# Altium footprint library WiCAN_lib.PcbLib: 21 footprints (part 1 of 2)
Each footprint in its own frame and in the unit in brackets; x right, y up, seen from the top. Pads: shape width x height; smd on the part's side, far side on the other; paste and mask are expansions set on the pad; w line width, h text height; cw(c..) or ccw(c..) is an arc to the next point about the centre after c.
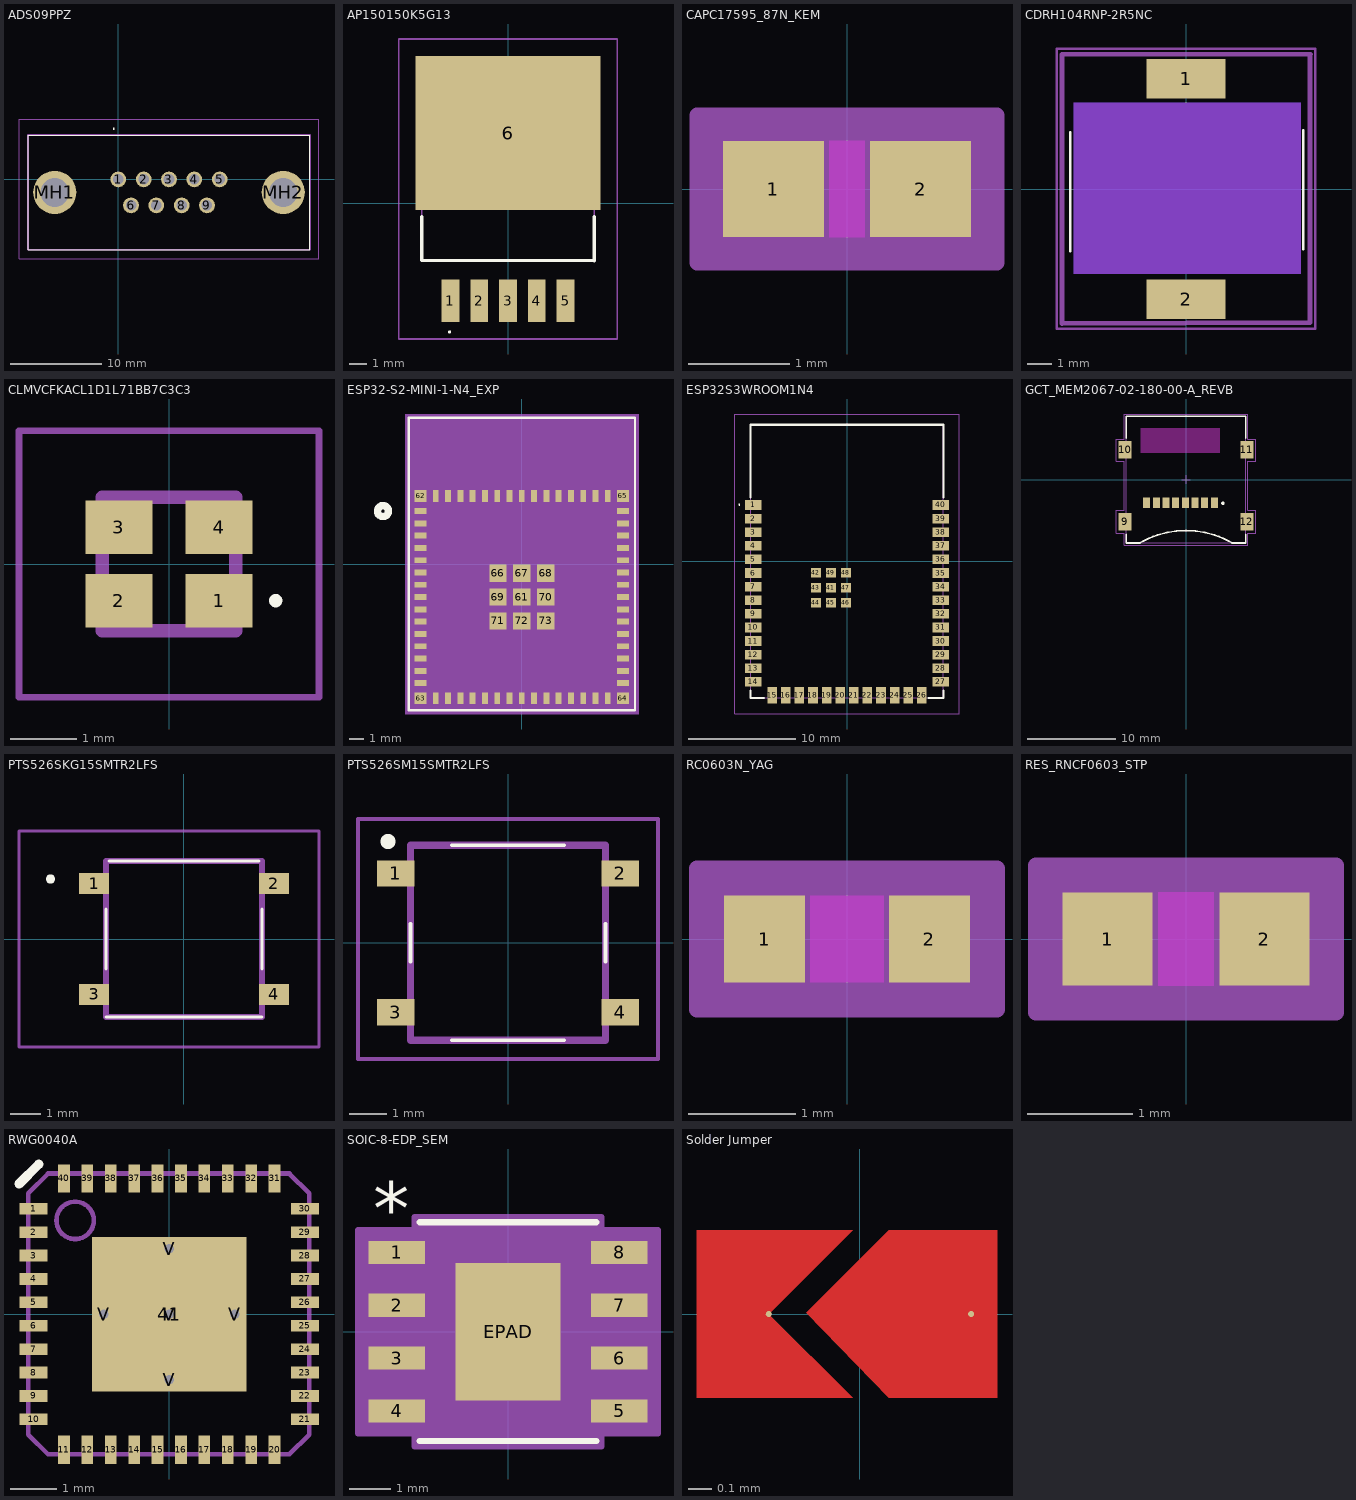
[diagram p0: the footprints below, top view; thin cyan lines are the x and y axes]

## ADS09PPZ [mm]
pads (11):
  round 1.725 hole 1.15: 1(0,0) 2(2.77,0) 3(5.54,0) 4(8.31,0) 5(11.08,0) 6(1.385,-2.84) 7(4.155,-2.84) 8(6.925,-2.84) 9(9.695,-2.84)
  round 4.725 hole 3.15: MH1(-6.955,-1.42) MH2(18.035,-1.42)
Top Overlay:
  lines w0.1: -9.865,-7.695 20.945,-7.695 20.945,4.855 -9.865,4.855 -9.865,-7.695 ; -0.5,5.5 ccw(c-0.5,5.55) -0.5,5.6 ccw(c-0.5,5.55) -0.5,5.5
Mechanical 13:
  lines w0.2: -9.865,-7.695 20.945,-7.695 20.945,4.855 -9.865,4.855 -9.865,-7.695
Mechanical 15:
  lines w0.1: -10.865,-8.695 21.945,-8.695 21.945,6.6 -10.865,6.6 -10.865,-8.695
3D body "connector_a-ds_09_pp_z.stp": height 12.6, standoff -4.6, extent -9.865,-7.695 20.945,4.855

## AP150150K5G13 [mm]
pads (6):
  rect 1.05x2.5 smd: 1(-3.4,-5.765) 2(-1.7,-5.765) 3(0,-5.765) 4(1.7,-5.765) 5(3.4,-5.765)
  rect 10.9x9.1 smd: 6(0,4.135)
Top Overlay:
  lines w0.1: -3.5,-7.6 ccw(c-3.45,-7.6) -3.4,-7.6 ccw(c-3.45,-7.6) -3.5,-7.6
  lines w0.2: -5.08,-0.8 -5.08,-3.385 5.08,-3.4 5.08,-0.8
Mechanical 13:
  lines w0.1: -5.08,-3.385 -5.08,5.765 5.08,5.765 5.08,-3.385 -5.08,-3.385
Mechanical 15:
  lines w0.1: -6.45,-8.015 -6.45,9.685 6.45,9.685 6.45,-8.015 -6.45,-8.015
3D body: height 4.85, standoff 0, extent -5.512,-3.327 5.486,8.712

## CAPC17595_87N_KEM [mm]
pads (2):
  rect 1x0.95 smd paste+0 mask+0: 1(-0.725,0) 2(0.725,0)
Top Layer keep-out:
  region: -0.174,-0.424 -0.174,0.424 0.174,0.424 0.174,-0.424
Keep-Out Layer:
  region: -0.174,-0.475 -0.174,0.475 0.174,0.475 0.174,-0.475
Mechanical 13:
  lines w0.025: -0.875,-0.475 -0.875,0.475 ; -0.875,-0.475 0.875,-0.475 ; -0.875,-0.475 -0.375,-0.475 -0.375,0.475 -0.875,0.475 ; -0.875,-0.475 -0.875,0.475 ; -0.875,0.475 0.875,0.475 ; 0.875,-0.475 0.875,0.475 ; 0.875,-0.475 0.875,0.475 ; 0.875,-0.475 0.375,-0.475 0.375,0.475 0.875,0.475
Mechanical 15:
  region: 1.479,-0.729 -1.479,-0.729 -1.479,0.729 1.479,0.729
  lines w0.152: -1.479,-0.729 1.479,-0.729 1.479,0.729 -1.479,0.729 -1.479,-0.729
3D body "CAPC17595_87N_KEM.step": height 0.87, standoff 0, extent -0.875,-0.475 0.875,0.475

## CDRH104RNP-2R5NC [mm]
pads (2):
  rect 3.2x1.6 smd: 1(0,4.45) 2(0,-4.45)
Top Layer keep-out:
  rectangle: -4.547,-3.429 4.648,3.48
Bottom Layer keep-out:
  rectangle: -4.547,-3.429 4.648,3.48
Top Overlay:
  lines w0.1: -4.674,-2.514 -4.674,2.286 ; 4.724,-2.438 4.724,2.362
Mechanical 13:
  lines w0.2: 5,5.436 5,-5.384 -5,-5.419 -5,5.436 5.029,5.436
Mechanical 15:
  lines w0.1: -5.207,-5.639 -5.207,5.664 5.207,5.664 5.207,-5.639 -5.207,-5.639

## CLMVCFKACL1D1L71BB7C3C3 [mm]
pads (4):
  rect 1x0.8 smd: 1(0.75,-0.55) 2(-0.75,-0.55) 3(-0.75,0.55) 4(0.75,0.55)
Top Overlay:
  lines w0.1: 1.6,-0.6 cw(c1.6,-0.55) 1.6,-0.5 cw(c1.6,-0.55) 1.6,-0.6
Mechanical 13:
  lines w0.2: -1,-1 1,-1 1,1 -1,1 -1,-1
Mechanical 15:
  lines w0.1: -2.25,-2 2.25,-2 2.25,2 -2.25,2 -2.25,-2
3D body "CLMVC-FKA-CL1D1L71BB7C3C3.stp": height 1.1, standoff 0, extent -1,-1 1,1

## ESP32-S2-MINI-1-N4_EXP [mil]
pads (73):
  rect 32x16 smd paste+0 mask+0: 1(-275.59,144.15) 2(-275.59,110.69) 3(-275.59,77.22) 4(-275.59,43.76) 5(-275.59,10.29) 6(-275.59,-23.17) 7(-275.59,-56.63) 8(-275.59,-90.1) 9(-275.59,-123.56) 10(-275.59,-157.03) 11(-275.59,-190.49) 12(-275.59,-223.96) 13(-275.59,-257.42) 14(-275.59,-290.89) 15(-275.59,-324.35) 31(275.59,-324.35) 32(275.59,-290.89) 33(275.59,-257.42) 34(275.59,-223.96) 35(275.59,-190.49) 36(275.59,-157.03) 37(275.59,-123.56) 38(275.59,-90.1) 39(275.59,-56.63) 40(275.59,-23.17) 41(275.59,10.29) 42(275.59,43.76) 43(275.59,77.22) 44(275.59,110.69) 45(275.59,144.15)
  rect 16x32 smd: 16(-234.25,-365.69) 17(-200.79,-365.69) 18(-167.32,-365.69) 19(-133.86,-365.69) 20(-100.39,-365.69) 21(-66.93,-365.69) 22(-33.46,-365.69) 23(0,-365.69) 24(33.46,-365.69) 25(66.93,-365.69) 26(100.39,-365.69) 27(133.86,-365.69) 28(167.32,-365.69) 29(200.79,-365.69) 30(234.25,-365.69) 46(234.25,185.49) 47(200.79,185.49) 48(167.32,185.49) 49(133.86,185.49) 50(100.39,185.49) 51(66.93,185.49) 52(33.46,185.49) 53(0,185.49) 54(-33.46,185.49) 55(-66.93,185.49) 56(-100.39,185.49) 57(-133.86,185.49) 58(-167.32,185.49) 59(-200.79,185.49) 60(-234.25,185.49)
  rect 47x47 smd: 61(0,-90.1) 66(-64.96,-25.14) 67(0,-25.14) 68(64.96,-25.14) 69(-64.96,-90.1) 70(64.96,-90.1) 71(-64.96,-155.06) 72(0,-155.06) 73(64.96,-155.06)
  rect 32x32 smd: 62(-275.59,185.49) 63(-275.59,-365.69) 64(275.59,-365.69) 65(275.59,185.49)
Top Overlay:
  circle w20: c-378,144.15 r15
  lines w6: -308,-398.5 308,-398.5 308,398.5 -308,398.5 -308,-398.5
Bottom Overlay:
  circle w20: c-378,144.15 r15
Mechanical 5:
  region: -318,408.5 318,408.5 318,-408.5 -318,-408.5
Mechanical 13:
  circle w20: c-275.59,219.15 r15
  lines w1: -303,-393.5 303,-393.5 303,393.5 -303,393.5 -303,-393.5
Mechanical 15:
  region: 313,403.5 -313,403.5 -313,-403.5 313,-403.5
  lines w6: -313,-403.5 -313,403.5 313,403.5 313,-403.5 -313,-403.5
3D body: height 10, standoff 0, extent 0,0 10,10
3D body "ESP32-S2-MINI-1-N4.STEP": height 100.39, standoff 0, extent -303.28,-395.27 303.02,392.13

## ESP32S3WROOM1N4 [mm]
pads (49):
  rect 1.5x0.9 smd: 1(-8.75,5.26) 2(-8.75,3.99) 3(-8.75,2.72) 4(-8.75,1.45) 5(-8.75,0.18) 6(-8.75,-1.09) 7(-8.75,-2.36) 8(-8.75,-3.63) 9(-8.75,-4.9) 10(-8.75,-6.17) 11(-8.75,-7.44) 12(-8.75,-8.71) 13(-8.75,-9.98) 14(-8.75,-11.25) 27(8.75,-11.25) 28(8.75,-9.98) 29(8.75,-8.71) 30(8.75,-7.44) 31(8.75,-6.17) 32(8.75,-4.9) 33(8.75,-3.63) 34(8.75,-2.36) 35(8.75,-1.09) 36(8.75,0.18) 37(8.75,1.45) 38(8.75,2.72) 39(8.75,3.99) 40(8.75,5.26)
  rect 0.9x1.5 smd: 15(-6.985,-12.5) 16(-5.715,-12.5) 17(-4.445,-12.5) 18(-3.175,-12.5) 19(-1.905,-12.5) 20(-0.635,-12.5) 21(0.635,-12.5) 22(1.905,-12.5) 23(3.175,-12.5) 24(4.445,-12.5) 25(5.715,-12.5) 26(6.985,-12.5)
  rect 0.9x0.9 smd: 41(-1.5,-2.46) 42(-2.9,-1.06) 43(-2.9,-2.46) 44(-2.9,-3.86) 45(-1.5,-3.86) 46(-0.1,-3.86) 47(-0.1,-2.46) 48(-0.1,-1.06) 49(-1.5,-1.06)
Top Overlay:
  lines w0.1: -10.1,5.3 ccw(c-10.05,5.3) -10,5.3 ccw(c-10.05,5.3) -10.1,5.3
  lines w0.2: -9,-12.05 -9,-12.75 -7.765,-12.75 ; -9,5.95 -9,12.75 9,12.75 9,5.95 ; 7.635,-12.75 9,-12.75 9,-12.05
Mechanical 13:
  lines w0.1: -9,-12.75 -9,12.75 9,12.75 9,-12.75 -9,-12.75
Mechanical 15:
  lines w0.1: -10.5,-14.25 -10.5,13.75 10.5,13.75 10.5,-14.25 -10.5,-14.25
3D body "ESP32-S3-WROOM.step": height 3.11, standoff -0.05, extent -9.01,-12.76 9.01,12.75

## GCT_MEM2067-02-180-00-A_REVB [mm]
pads (12):
  rect 0.8x1.2 smd: 1(3.225,-2.625) 2(2.125,-2.625) 3(1.025,-2.625) 4(-0.075,-2.625) 5(-1.175,-2.625) 6(-2.275,-2.625) 7(-3.375,-2.625) 8(-4.475,-2.625)
  rect 1.5x2 smd: 9(-6.945,-4.825) 10(-6.945,3.375) 11(6.945,3.375) 12(6.945,-4.825)
Top Overlay:
  circle w0.2: c4.2,-2.7 r0.1
  lines w0.2: -6.8,-6.275 -6.8,-7.225 -5.25,-7.225 ; -6.8,4.725 -6.8,7.225 6.8,7.225 6.8,4.725 ; -5.226,-7.211 cw(c0,-16.264) 5.226,-7.211 ; 5.25,-7.225 6.8,-7.225 6.8,-6.275
Keep-Out Layer:
  region: 3.85,3.028 -5.155,3.028 -5.155,5.825 3.85,5.825
Mechanical 13:
  lines w0.1: -6.8,2.77 -7.3,2.77 -7.3,3.97 -6.8,3.97 ; -0.5,0 0.5,0 ; 0,-0.5 0,0.5 ; -6.8,-5.4 -7.3,-5.4 -7.3,-4.2 -6.8,-4.2 ; -6.8,-5.4 -6.8,-4.2 ; -6.8,-5.4 -6.8,-7.225 6.8,-7.225 6.8,-5.4 ; -6.8,-4.2 -6.8,7.225 6.8,7.225 6.8,3.97 ; 6.8,-5.4 6.8,-4.2 ; 6.8,-5.4 7.3,-5.4 7.3,-4.2 6.8,-4.2 ; 6.8,-4.2 6.8,2.77 ; 6.8,2.77 6.8,3.97 ; 6.8,2.77 7.3,2.77 7.3,3.97 6.8,3.97
Mechanical 15:
  lines w0.05: -7.95,-6.096 -7.061,-6.096 -7.061,-7.468 7.061,-7.468 7.061,-6.096 7.95,-6.096 7.95,-3.505 7.061,-3.505 7.061,2.108 7.95,2.108 7.95,4.597 7.061,4.597 7.061,7.468 -7.061,7.468 -7.061,4.597 -7.95,4.597 -7.95,2.108 -7.061,2.108 -7.061,-3.505 -7.95,-3.505 -7.95,-6.096
3D body "MEM2067-02-180-00-A.STEP": height 1.8, standoff 0, extent -7.3,-7.225 7.3,7.225

## PCBComponent_1 [mm]

## PTS526SKG15SMTR2LFS [mm]
pads (4):
  rect 1x0.7 smd: 1(-3,1.85) 2(3,1.85) 3(-3,-1.85) 4(3,-1.85)
Top Overlay:
  lines w0.1: -2.6,-2.6 2.6,-2.6 -2.6,-2.6 ; -2.6,-1 -2.6,1 -2.6,-1 ; -2.5,2.6 2.5,2.6 -2.5,2.6 ; 2.6,-1 2.6,1 2.6,-1
  lines w0.2: -4.5,2 ccw(c-4.45,2) -4.4,2 ; -4.5,2 cw(c-4.45,2) -4.4,2 ; -4.5,2 -4.4,2
Mechanical 13:
  lines w0.2: -2.6,-2.6 2.6,-2.6 2.6,2.6 -2.6,2.6 -2.6,-2.6
Mechanical 15:
  lines w0.1: -5.5,-3.6 4.5,-3.6 4.5,3.6 -5.5,3.6 -5.5,-3.6
3D body "PTS526_SK08_SMTR2_LFS.stp": height 0.85, standoff 0, extent -3.2,-2.4 3.2,2.4

## PTS526SM15SMTR2LFS [mm]
pads (4):
  rect 1x0.7 smd: 1(-3,1.85) 2(3,1.85) 3(-3,-1.85) 4(3,-1.85)
Top Overlay:
  lines w0.1: -2.6,-0.5 -2.6,0.5 ; -1.5,-2.6 1.5,-2.6 ; -1.5,2.6 1.5,2.6 ; 2.6,-0.5 2.6,0.5
  lines w0.2: -3.2,2.6 cw(c-3.2,2.7) -3.2,2.8 cw(c-3.2,2.7) -3.2,2.6
Mechanical 13:
  lines w0.2: -2.6,-2.6 2.6,-2.6 2.6,2.6 -2.6,2.6 -2.6,-2.6
Mechanical 15:
  lines w0.1: -4,-3.1 4,-3.1 4,3.3 -4,3.3 -4,-3.1
3D body "PTS526_SM15_SMTR2_LFS.stp": height 1.55, standoff 0, extent -3.2,-2.6 3.2,2.6

## RC0603N_YAG [mil]
pads (2):
  rect 29.78x32 smd paste+0 mask+0: 1(-30.39,0) 2(30.39,0)
Top Layer keep-out:
  region: -13.5,-14 -13.5,14 13.5,14 13.5,-14
Keep-Out Layer:
  region: -13.5,-16 -13.5,16 13.5,16 13.5,-16
Mechanical 13:
  lines w1: -31.5,-16 -31.5,16 ; -31.5,-16 31.5,-16 ; -31.5,-16 -15.5,-16 -15.5,16 -31.5,16 ; -31.5,-16 -31.5,16 ; -31.5,16 31.5,16 ; 31.5,-16 31.5,16 ; 31.5,-16 31.5,16 ; 31.5,-16 15.5,-16 15.5,16 31.5,16
Mechanical 15:
  region: 55.28,-26 -55.28,-26 -55.28,26 55.28,26
  lines w6: -55.28,-26 55.28,-26 55.28,26 -55.28,26 -55.28,-26
3D body "RC0603N_YAG.step": height 27.99, standoff 0, extent -31.5,-15.98 31.5,15.98

## RES_RNCF0603_STP [mil]
pads (2):
  rect 33.78x35 smd paste+0 mask+0: 1(-29.39,0) 2(29.39,0)
Top Layer keep-out:
  region: -10.5,-15.5 -10.5,15.5 10.5,15.5 10.5,-15.5
Keep-Out Layer:
  region: -10.5,-17.5 -10.5,17.5 10.5,17.5 10.5,-17.5
Mechanical 13:
  lines w1: -32.5,-17.5 -32.5,17.5 ; -32.5,-17.5 32.5,-17.5 ; -32.5,-17.5 -12.5,-17.5 -12.5,17.5 -32.5,17.5 ; -32.5,-17.5 -32.5,17.5 ; -32.5,17.5 32.5,17.5 ; 32.5,-17.5 32.5,17.5 ; 32.5,-17.5 32.5,17.5 ; 32.5,-17.5 12.5,-17.5 12.5,17.5 32.5,17.5
Mechanical 15:
  region: 56.28,-27.5 -56.28,-27.5 -56.28,27.5 56.28,27.5
  lines w6: -56.28,-27.5 56.28,-27.5 56.28,27.5 -56.28,27.5 -56.28,-27.5
3D body "RES_RNCF0603_STP.step": height 22.01, standoff 0, extent -32.52,-17.48 32.52,17.48

## RWG0040A [mm]
pads (46):
  rect 0.6x0.25 smd paste+0 mask+0: 1(-2.9,2.25) 2(-2.9,1.75) 3(-2.9,1.25) 4(-2.9,0.75) 5(-2.9,0.25) 6(-2.9,-0.25) 7(-2.9,-0.75) 8(-2.9,-1.25) 9(-2.9,-1.75) 10(-2.9,-2.25) 21(2.9,-2.25) 22(2.9,-1.75) 23(2.9,-1.25) 24(2.9,-0.75) 25(2.9,-0.25) 26(2.9,0.25) 27(2.9,0.75) 28(2.9,1.25) 29(2.9,1.75) 30(2.9,2.25)
  rect 0.25x0.6 smd paste+0 mask+0: 11(-2.25,-2.9) 12(-1.75,-2.9) 13(-1.25,-2.9) 14(-0.75,-2.9) 15(-0.25,-2.9) 16(0.25,-2.9) 17(0.75,-2.9) 18(1.25,-2.9) 19(1.75,-2.9) 20(2.25,-2.9) 31(2.25,2.9) 32(1.75,2.9) 33(1.25,2.9) 34(0.75,2.9) 35(0.25,2.9) 36(-0.25,2.9) 37(-0.75,2.9) 38(-1.25,2.9) 39(-1.75,2.9) 40(-2.25,2.9)
  rect 3.3x3.3 smd paste-1.65 mask+0: 41(0,0)
  round 0.5 hole 0.203 paste-2539.97 mask+0: V(-1.4,0) V(0,-1.4) V(0,0) V(0,1.4) V(1.4,0)
Top Overlay:
  lines w0.2: -3.211,2.782 -2.791,3.202
Top Paste:
  region: 0.101,0.14 0.1,0.15 0.1,1.48 0.101,1.49 0.104,1.499 0.108,1.508 0.115,1.515 0.122,1.522 0.131,1.526 0.14,1.529 0.15,1.53 1.48,1.53 1.49,1.529 1.499,1.526 1.508,1.522 1.515,1.515 1.522,1.508 1.526,1.499 1.529,1.49 1.53,1.48 1.53,0.15 1.529,0.14 1.526,0.131 1.522,0.122 1.515,0.115 1.508,0.108 1.499,0.104 1.49,0.101 1.48,0.1 0.15,0.1 0.14,0.101 0.131,0.104 0.122,0.108 0.115,0.115 0.108,0.122 0.104,0.131
  region: -0.101,1.49 -0.1,1.48 -0.1,0.15 -0.101,0.14 -0.104,0.131 -0.108,0.122 -0.115,0.115 -0.122,0.108 -0.131,0.104 -0.14,0.101 -0.15,0.1 -1.48,0.1 -1.49,0.101 -1.499,0.104 -1.508,0.108 -1.515,0.115 -1.522,0.122 -1.526,0.131 -1.529,0.14 -1.53,0.15 -1.53,1.48 -1.529,1.49 -1.526,1.499 -1.522,1.508 -1.515,1.515 -1.508,1.522 -1.499,1.526 -1.49,1.529 -1.48,1.53 -0.15,1.53 -0.14,1.529 -0.131,1.526 -0.122,1.522 -0.115,1.515 -0.108,1.508 -0.104,1.499
  region: -0.101,-0.14 -0.1,-0.15 -0.1,-1.48 -0.101,-1.49 -0.104,-1.499 -0.108,-1.508 -0.115,-1.515 -0.122,-1.522 -0.131,-1.526 -0.14,-1.529 -0.15,-1.53 -1.48,-1.53 -1.49,-1.529 -1.499,-1.526 -1.508,-1.522 -1.515,-1.515 -1.522,-1.508 -1.526,-1.499 -1.529,-1.49 -1.53,-1.48 -1.53,-0.15 -1.529,-0.14 -1.526,-0.131 -1.522,-0.122 -1.515,-0.115 -1.508,-0.108 -1.499,-0.104 -1.49,-0.101 -1.48,-0.1 -0.15,-0.1 -0.14,-0.101 -0.131,-0.104 -0.122,-0.108 -0.115,-0.115 -0.108,-0.122 -0.104,-0.131
  region: 0.101,-1.49 0.1,-1.48 0.1,-0.15 0.101,-0.14 0.104,-0.131 0.108,-0.122 0.115,-0.115 0.122,-0.108 0.131,-0.104 0.14,-0.101 0.15,-0.1 1.48,-0.1 1.49,-0.101 1.499,-0.104 1.508,-0.108 1.515,-0.115 1.522,-0.122 1.526,-0.131 1.529,-0.14 1.53,-0.15 1.53,-1.48 1.529,-1.49 1.526,-1.499 1.522,-1.508 1.515,-1.515 1.508,-1.522 1.499,-1.526 1.49,-1.529 1.48,-1.53 0.15,-1.53 0.14,-1.529 0.131,-1.526 0.122,-1.522 0.115,-1.515 0.108,-1.508 0.104,-1.499
Mechanical 13:
  lines w0.1: -3.011,-2.578 -2.591,-2.998 -2.386,-2.998 -2.136,-2.998 -1.886,-2.998 -1.636,-2.998 -1.386,-2.998 -1.136,-2.998 -0.886,-2.998 -0.636,-2.998 -0.386,-2.998 -0.136,-2.998 0.114,-2.998 0.364,-2.998 0.614,-2.998 0.864,-2.998 1.114,-2.998 1.364,-2.998 1.614,-2.998 1.864,-2.998 2.114,-2.998 2.364,-2.998 2.569,-2.998 2.989,-2.578 2.989,-2.373 2.989,-2.123 2.989,-1.873 2.989,-1.623 2.989,-1.373 2.989,-1.123 2.989,-0.873 2.989,-0.623 2.989,-0.373 2.989,-0.123 2.989,0.127 2.989,0.377 2.989,0.627 2.989,0.877 2.989,1.127 2.989,1.377 2.989,1.627 2.989,1.877 2.989,2.127 2.989,2.377 2.989,2.582 2.569,3.002 2.364,3.002 2.114,3.002 1.864,3.002 1.614,3.002 1.364,3.002 1.114,3.002 0.864,3.002 0.614,3.002 0.364,3.002 0.114,3.002 -0.136,3.002 -0.386,3.002 -0.636,3.002 -0.886,3.002 -1.136,3.002 -1.386,3.002 -1.636,3.002 -1.886,3.002 -2.136,3.002 -2.386,3.002 -2.591,3.002 -3.011,2.582 -3.011,2.377 -3.011,2.127 -3.011,1.877 -3.011,1.627 -3.011,1.377 -3.011,1.127 -3.011,0.877 -3.011,0.627 -3.011,0.377 -3.011,0.127 -3.011,-0.123 -3.011,-0.373 -3.011,-0.623 -3.011,-0.873 -3.011,-1.123 -3.011,-1.373 -3.011,-1.623 -3.011,-1.873 -3.011,-2.123 -3.011,-2.373 -3.011,-2.578 ; -2.411,2.002 ccw(c-2.011,2.002) -1.611,2.002 ccw(c-2.011,2.002) -2.411,2.002

## SOIC-8-EDP_SEM [mil]
pads (9):
  rect 53.5x22 smd paste+0 mask+0: 1(-105.25,75) 2(-105.25,25) 3(-105.25,-25) 4(-105.25,-75) 5(105.25,-75) 6(105.25,-25) 7(105.25,25) 8(105.25,75)
  rect 99x130 smd paste-64.5 mask+0: EPAD(0,0)
Top Overlay:
  lines w6: -83.5,-103.5 83.5,-103.5 ; -83.5,103.5 83.5,103.5
  text "*" at -127.75,92 h50
Top Paste:
  region: 45.56,61.06 -45.56,61.06 -45.56,3.94 45.56,3.94
  region: 45.56,-3.94 -45.56,-3.94 -45.56,-61.06 45.56,-61.06
Mechanical 13:
  lines w1: -12,98.5 ccw(c0,98.5) 12,98.5 ; -118,-85 -118,-65 -78.5,-65 -78.5,-85 -118,-85 ; -118,-35 -118,-15 -78.5,-15 -78.5,-35 -118,-35 ; -118,15 -118,35 -78.5,35 -78.5,15 -118,15 ; -118,65 -118,85 -78.5,85 -78.5,65 -118,65 ; -78.5,-98.5 78.5,-98.5 78.5,98.5 -78.5,98.5 -78.5,-98.5 ; 78.5,-85 78.5,-65 118,-65 118,-85 78.5,-85 ; 78.5,-35 78.5,-15 118,-15 118,-35 78.5,-35 ; 78.5,15 78.5,35 118,35 118,15 78.5,15 ; 78.5,65 78.5,85 118,85 118,65 78.5,65
  text "*" at -76,45.5 h50
Mechanical 15:
  region: -88.5,-96 -142,-96 -142,96 -88.5,96 -88.5,108.5 88.5,108.5 88.5,96 142,96 142,-96 88.5,-96 88.5,-108.5 -88.5,-108.5
  lines w6: -142,-96 -142,96 -88.5,96 -88.5,108.5 88.5,108.5 88.5,96 142,96 142,-96 88.5,-96 88.5,-108.5 -88.5,-108.5 -88.5,-96 -142,-96
3D body "SOIC-8-EDP_SEM.step": height 69.09, standoff -2.01, extent -117.99,-98.5 117.99,98.5

## Solder Jumper [mil]
pads (2):
  round 1 smd paste+0: 1(-15,0) 2(18.3,0)
Top Layer:
  region: -26.81,-13.78 -26.81,13.78 -1.22,13.78 -15,0 -1.22,-13.78
  region: 4.77,-13.78 -8.81,0.2 4.77,13.78 22.55,13.78 22.55,-13.78